# Altium schematic symbol library IC-JieLi.SchLib: 1 symbol
Pins are listed as number, name and electrical type; pins without a type are passive.

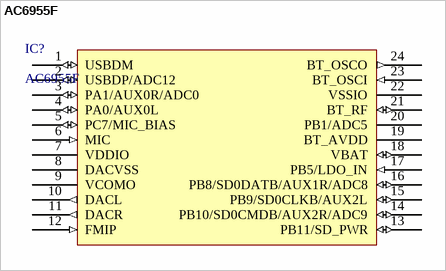
[diagram p0: symbol AC6955F]

## AC6955F
designator IC?
蓝牙芯片; Manufacturer_Name: JIELI; Manufacturer_Part_Number: AC6955F; LCSC: *; Manufacturer_Name_1: *; Manufacturer_Part_Number_1: *
footprint QSOP24
pins: 1 USBDM (io), 2 USBDP/ADC12 (io), 3 PA1/AUX0R/ADC0 (io), 4 PA0/AUX0L (io), 5 PC7/MIC_BIAS (io), 6 MIC (in), 7 VDDIO (power), 8 DACVSS (power), 9 VCOMO, 10 DACL (out), 11 DACR (out), 12 FMIP (in), 13 PB11/SD_PWR (io), 14 PB10/SD0CMDB/AUX2R/ADC9 (io), 15 PB9/SD0CLKB/AUX2L (io), 16 PB8/SD0DATB/AUX1R/ADC8 (io), 17 PB5/LDO_IN (in), 18 VBAT (io), 19 BT_AVDD (power), 20 PB1/ADC5 (power), 21 BT_RF (io), 22 VSSIO (power), 23 BT_OSCI (in), 24 BT_OSCO (out)